# Altium footprint library PCB - LEADLESS - BGA - TI DSBGA-6 1.25X0.85MM.PCBLIB: 1 footprints
Each footprint in its own frame and in the unit in brackets; x right, y up, seen from the top. Pads: shape width x height; smd on the part's side, far side on the other; paste and mask are expansions set on the pad; w line width, h text height; cw(c..) or ccw(c..) is an arc to the next point about the centre after c.
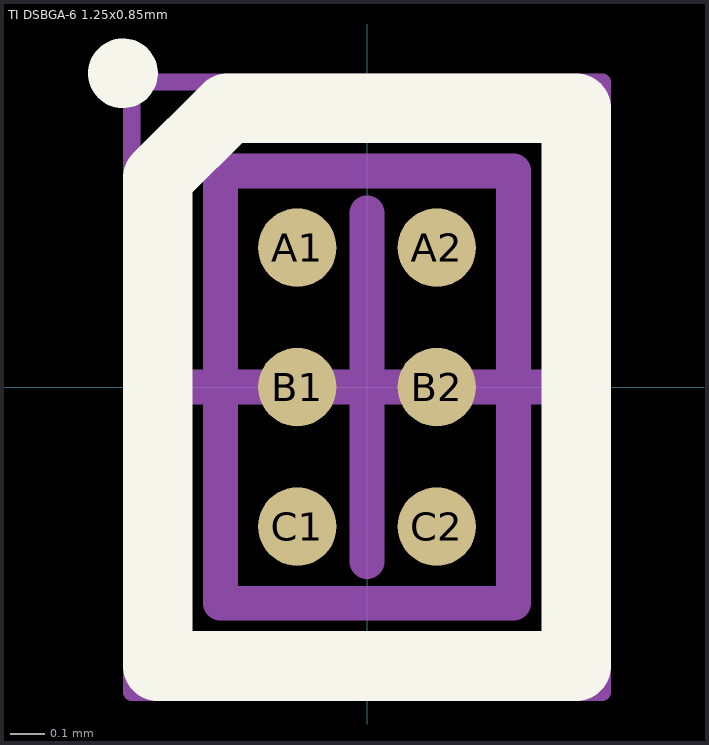
[diagram p0: the footprint, top view; thin cyan lines are the x and y axes]

## TI DSBGA-6 1.25x0.85mm [mm] "BGA, 6-Leads, Body 0.84x1.24mmx0.68mm, Pitch 0.40mm"
height 0.68
pads (6):
  round 0.225 smd: A1(-0.2,0.4) A2(0.2,0.4) B1(-0.2,0) B2(0.2,0) C1(-0.2,-0.4) C2(0.2,-0.4)
Top Overlay:
  circle w0.1: c-0.7,0.9 r0.05
  lines w0.2: -0.6,-0.8 -0.6,0.6 -0.4,0.8 0.6,0.8 0.6,-0.8 -0.6,-0.8
Mechanical 13:
  lines w0.1: -0.42,-0.62 0.42,-0.62 0.42,0.62 -0.42,0.62 -0.42,-0.62
Mechanical 15:
  lines w0.05: -0.675,-0.875 0.675,-0.875 0.675,0.875 -0.675,0.875 -0.675,-0.875
  lines w0.1: -0.5,0 0.5,0 ; 0,-0.5 0,0.5
3D body: height 0.68, standoff 0.17, extent -0.42,-0.62 0.42,0.62
3D body: height 0.24, standoff -0.02, extent 0.075,-0.525 0.325,-0.275
3D body: height 0.24, standoff -0.02, extent -0.325,-0.525 -0.075,-0.275
3D body: height 0.24, standoff -0.02, extent -0.325,-0.125 -0.075,0.125
3D body: height 0.24, standoff -0.02, extent 0.075,-0.125 0.325,0.125
3D body: height 0.24, standoff -0.02, extent 0.075,0.275 0.325,0.525
3D body: height 0.24, standoff -0.02, extent -0.325,0.275 -0.075,0.525